# EAGLE library part TL072 (library uRings_SE_Library)
OP AMP
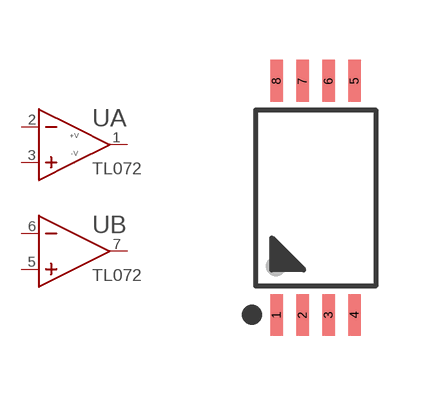
[diagram p5: symbol with the pads of TSSOP-8; footprint TSSOP-8]

Designator prefix U; gates B=OPAMP A=OPAMP-PWR

## TL072  [TSSOP-8]
1  A:OUT  out
2  A:IN-  in
3  A:IN+  in
4  A:NEG  pwr
5  B:+  in
6  B:-  in
7  B:OUT  out
8  A:POS  pwr

## Footprint TSSOP-8 (pad centres in mm)
smd 0.32 x 1.05: 1 -0.975,-2.925; 2 -0.325,-2.925; 3 0.325,-2.925; 4 0.975,-2.925; 5 0.975,2.925; 6 0.325,2.925; 7 -0.325,2.925; 8 -0.975,2.925